# EAGLE library part ATSAME70_(?) (library atmel)
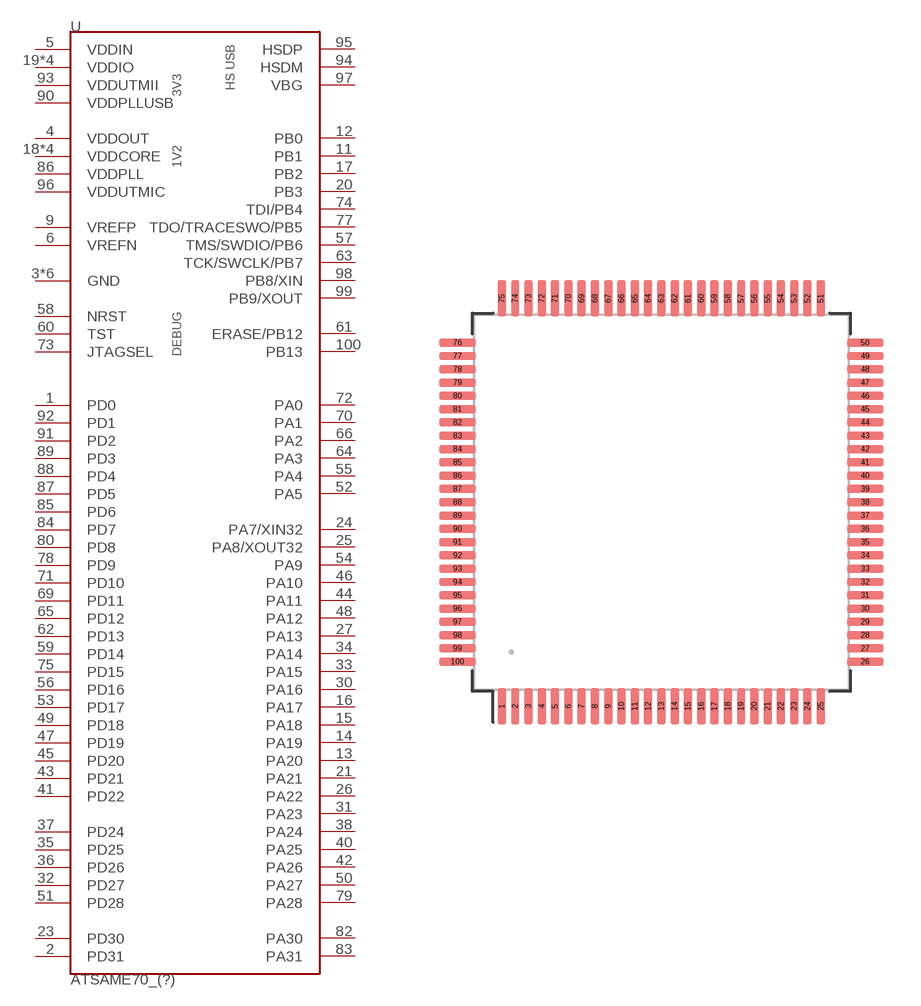
[diagram p0: symbol with the pads of QFP100P50_1600X1600X150L50X22T0X0N_40X40X10L20X5; footprint QFP100P50_1600X1600X150L50X22T0X0N_40X40X10L20X5]

Designator prefix U

## ATSAME70_(ATSAME70N21A-AN) (HEIGHT: 1.6; IDF_FAMILYNAME: JEDEC_MS-026D; IDF_PARTNUMBER: AED; PARTNUMBER: ATSAME70N21A-AN)  [QFP100P50_1600X1600X150L50X22T0X0N_40X40X10L20X5]
1  PD0
2  PD31
3  GND  pwr
4  VDDOUT  sup
5  VDDIN  pwr
6  VREFN  in
7  GND  pwr
8  GND  pwr
9  VREFP  in
10  GND  pwr
11  PB1
12  PB0
13  PA20
14  PA19
15  PA18
16  PA17
17  PB2
18  VDDCORE  pwr
19  VDDIO  pwr
20  PB3
21  PA21
22  VDDCORE  pwr
23  PD30
24  PA7/XIN32
25  PA8/XOUT32
26  PA22
27  PA13
28  VDDIO  pwr
29  GND  pwr
30  PA16
31  PA23
32  PD27
33  PA15
34  PA14
35  PD25
36  PD26
37  PD24
38  PA24
39  VDDCORE  pwr
40  PA25
41  PD22
42  PA26
43  PD21
44  PA11
45  PD20
46  PA10
47  PD19
48  PA12
49  PD18
50  PA27
51  PD28
52  PA5
53  PD17
54  PA9
55  PA4
56  PD16
57  TMS/SWDIO/PB6
58  NRST
59  PD14
60  TST  in
61  ERASE/PB12
62  PD13
63  TCK/SWCLK/PB7
64  PA3
65  PD12
66  PA2
67  GND  pwr
68  VDDIO  pwr
69  PD11
70  PA1
71  PD10
72  PA0
73  JTAGSEL  in
74  TDI/PB4
75  PD15
76  VDDCORE  pwr
77  TDO/TRACESWO/PB5
78  PD9
79  PA28
80  PD8
81  VDDIO  pwr
82  PA30
83  PA31
84  PD7
85  PD6
86  VDDPLL  pwr
87  PD5
88  PD4
89  PD3
90  VDDPLLUSB  pwr
91  PD2
92  PD1
93  VDDUTMII  pwr
94  HSDM
95  HSDP
96  VDDUTMIC  pwr
97  VBG  in
98  PB8/XIN
99  PB9/XOUT
100  PB13

## Footprint QFP100P50_1600X1600X150L50X22T0X0N_40X40X10L20X5 (pad centres in mm)
Quad Flat Package (100 pins, 0.50mm pitch) Nominal Material Condition Body (LxWxH): 14.00mm x 14.00mm x 1.50mm Lead (L): 0.50mm IPC Component Parameters materialCondition | 1 | Nominal (Nominal Density) nD | 25 nE | 25 A | 1.400000 | 1.600000 D | 15.600000 | 16.400000 E | 15.600000 | 16.400000 D1 | 13.900000 | 14.100000 E1 | 13.900000 | 14.100000 b | 0.170000 | 0.270000 L | 0.300000 | 0.700000 e | 0.500000 ep_D2 | 0.000000 ep_E2 | 0.000000 ep_tr | 0.000000 ep_tc | 0.000000 ep_pmc | 100.000000 ep_pmp | 0 | solid ep_pmspace | 0.500000 IPC Library Parameters fabTol | 0.050000 placeTol | 0.025000 padPlaceRoundOff | 0.010000 padSizeRoundOff | 0.010000 cornerRadius | 25.000000 cornerRadiusLimit | 0.250000 cornerRadiusRoundOff | 0.010000 thtPadSizeRoundOff | 0.010000 thtCourtyardExcess | 0.250000 thtCourtyardRound | 0.010000 thtHoleOverRoundLead | 0.200000 thtHoleOverRectangularLead | 0.150000 thtMinimumAnnularRing | 0.200000 thtPadToHoleRatio | 1.500000 courtyardLineWidth | 0.050000 legendLineWidth | 0.100000 | 0.120000 | 0.150000 legendClearance | 0.100000 | 0.120000 | 0.150000 legendFontHeight | 1.000000 | 1.200000 | 1.500000 legendFontRatio | 10.000000 legendRoundOff | 0.010000 componentFontHeight | 2.000000 componentLineWidth | 0.100000 componentRoundOff | 0.010000 Package generated by: qfp.ulp
smd 0.31 x 1.36: 1 -6,-7.67; 2 -5.5,-7.67; 3 -5,-7.67; 4 -4.5,-7.67; 5 -4,-7.67; 6 -3.5,-7.67; 7 -3,-7.67; 8 -2.5,-7.67; 9 -2,-7.67; 10 -1.5,-7.67; 11 -1,-7.67; 12 -0.5,-7.67; 13 0,-7.67; 14 0.5,-7.67; 15 1,-7.67; 16 1.5,-7.67; 17 2,-7.67; 18 2.5,-7.67; 19 3,-7.67; 20 3.5,-7.67; 21 4,-7.67; 22 4.5,-7.67; 23 5,-7.67; 24 5.5,-7.67; 25 6,-7.67; 51 6,7.67; 52 5.5,7.67; 53 5,7.67; 54 4.5,7.67; 55 4,7.67; 56 3.5,7.67; 57 3,7.67; 58 2.5,7.67; 59 2,7.67; 60 1.5,7.67; 61 1,7.67; 62 0.5,7.67; 63 0,7.67; 64 -0.5,7.67; 65 -1,7.67; 66 -1.5,7.67; 67 -2,7.67; 68 -2.5,7.67; 69 -3,7.67; 70 -3.5,7.67; 71 -4,7.67; 72 -4.5,7.67; 73 -5,7.67; 74 -5.5,7.67; 75 -6,7.67
smd 1.36 x 0.31: 26 7.67,-6; 27 7.67,-5.5; 28 7.67,-5; 29 7.67,-4.5; 30 7.67,-4; 31 7.67,-3.5; 32 7.67,-3; 33 7.67,-2.5; 34 7.67,-2; 35 7.67,-1.5; 36 7.67,-1; 37 7.67,-0.5; 38 7.67,0; 39 7.67,0.5; 40 7.67,1; 41 7.67,1.5; 42 7.67,2; 43 7.67,2.5; 44 7.67,3; 45 7.67,3.5; 46 7.67,4; 47 7.67,4.5; 48 7.67,5; 49 7.67,5.5; 50 7.67,6; 76 -7.67,6; 77 -7.67,5.5; 78 -7.67,5; 79 -7.67,4.5; 80 -7.67,4; 81 -7.67,3.5; 82 -7.67,3; 83 -7.67,2.5; 84 -7.67,2; 85 -7.67,1.5; 86 -7.67,1; 87 -7.67,0.5; 88 -7.67,0; 89 -7.67,-0.5; 90 -7.67,-1; 91 -7.67,-1.5; 92 -7.67,-2; 93 -7.67,-2.5; 94 -7.67,-3; 95 -7.67,-3.5; 96 -7.67,-4; 97 -7.67,-4.5; 98 -7.67,-5; 99 -7.67,-5.5; 100 -7.67,-6